# EAGLE library part LM2904 (library Dal_V2)
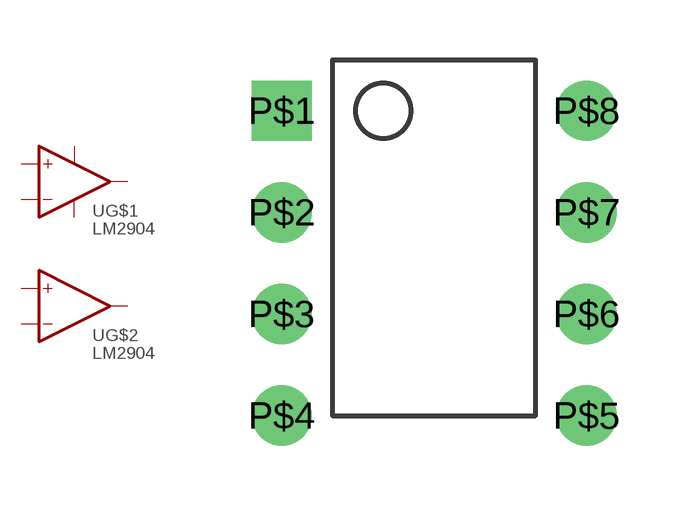
[diagram p28: symbol with the pads of DIP8; footprint DIP8]

Designator prefix U; gates G$1=OPAMP_PWR G$2=OPAMP

## LM2904  [DIP8]
P$1  G$1:OUT  out
P$2  G$1:-IN  in
P$3  G$1:+IN  in
P$4  G$1:P-  pas
P$5  G$2:+IN  in
P$6  G$2:-IN  in
P$7  G$2:OUT  out
P$8  G$1:P+  pas

## Footprint DIP8 (pad centres in mm)
drill 1 square: P$1 0,0
drill 1: P$2 0,-2.54; P$3 0,-5.08; P$4 0,-7.62; P$5 7.62,-7.62; P$6 7.62,-5.08; P$7 7.62,-2.54; P$8 7.62,0